# EAGLE library part 10_PIN_HEADER (library ng)
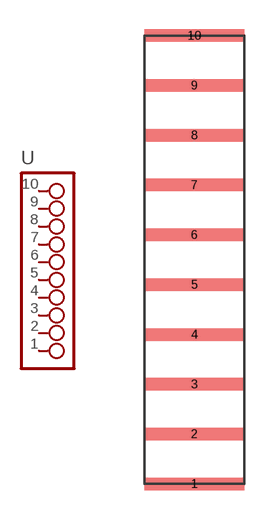
[diagram p3: symbol with the pads of SMT_PINS_10; footprint SMT_PINS_10]

Designator prefix -

## 10_PIN_HEADERHEADER  [SMT_PINS_10]
1  1
2  2
3  3
4  4
5  5
6  6
7  7
8  8
9  9
10  10

## Footprint SMT_PINS_10 (pad centres in mm)
smd 5.08 x 0.635: 1 0,0; 2 0,2.54; 3 0,5.08; 4 0,7.62; 5 0,10.16; 6 0,12.7; 7 0,15.24; 8 0,17.78; 9 0,20.32; 10 0,22.86